# Altium schematic symbol library USB.SchLib: 5 symbols
Pins are listed as number, name and electrical type; pins without a type are passive.

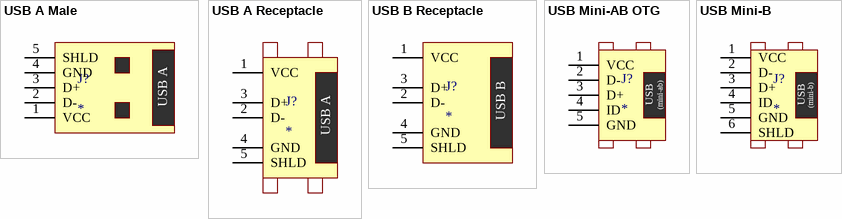
[diagram p0: symbols USB A Male to USB Mini-B]

## USB A Male
designator J?
USB A Male; Part No.: 19465; Manufacturer: 4UCON; Price Est.: $0.0792; Vendor: 4UCON
footprint USB A Male (Fits Molex & 4UCON 19465   USB A TYPE DENT TYPE SMT 90° MALE METAL WITHOUT KINK BLACK INSULATOR METAL SHELL)
pins: 1 VCC, 2 D-, 3 D+, 4 GND, 5 SHLD
text: USB A

## USB A Receptacle
designator J?
USB A Receptacle; Part No.: KUSBX-SMT-AS1N; Manufacturer: Kycon; Alt Part No.: 0475040001 (Vendor: WM17531TR-ND); Vendor: Mouser; Price Est.: $1.76
footprint USB TYPE A (USB Type A, SMT 4 Position Right Angle Based on Kycon KUSBLX-SMT-AS1NXXX)
pins: 1 VCC, 2 D-, 3 D+, 4 GND, 5 SHLD
text: USB A

## USB B Receptacle
designator J?
USB A Receptacle; Part No.: 0670689110; Manufacturer: Molex; Vendor Part No.: WM17531TR-ND; Vendor: Digi-Key; Price Est.: $2.04
footprint USB TYPE B (Molex USB Type B)
pins: 1 VCC, 2 D-, 3 D+, 4 GND, 5 SHLD
text: USB B

## USB Mini-AB OTG
designator J?
USB Mini-AB; Part No.: 0565790576; Manufacturer: Molex; Vendor: Mouser; Notes: Mini-AB Recpeptical Variant: 56579-0576; Price Est.: $3.12
footprint USB TYPE MINI-AB (Molex USB Mini-B Receptacle 565790576)
pins: 1 VCC, 2 D-, 3 D+, 4 ID, 5 GND
text: USB; (mini-ab)

## USB Mini-B
designator J?
USB Mini-B; Part No.: 54819-0572; Manufacturer: Molex; Vendor: Mouser; Notes: Mini-AB Recpeptical Variant: 56579-0576; Price Est.: $1.56
footprint USB MINI-B (PCB TAB) (USB Mini B with PCB TAB (Fits Kobiconn, Tyco, Molex)); pin to pad 1>VBUS 2>D- 3>D+ 4>ID 5>GND 6>SHLD
pins: 1 VCC, 2 D-, 3 D+, 4 ID, 5 GND, 6 SHLD
text: USB; (mini-b)